# EAGLE library part TS912 (library satnogs)
Dual Operational Amplifiers Source: http://www.st.com/stonline/products/literature/ds/2325/ts912.pdf Over-the-rail, single supply, only in SMD technology
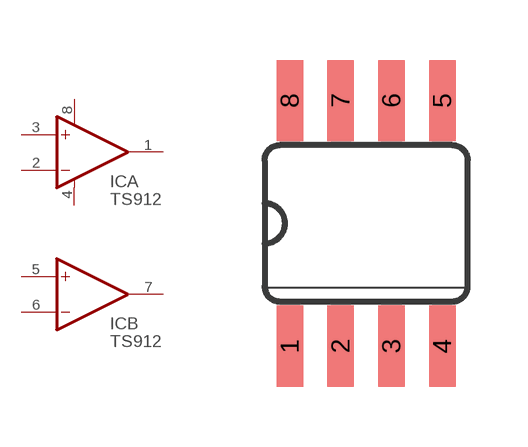
[diagram p3: symbol with the pads of SO08; footprint SO08]

Designator prefix IC; gates A=OPAMP+- B=OPAMP

## TS912D (MPN: TS912IDT; OC_FARNELL: 1642723; OC_NEWARK: unknown; OC_REICHELT: TS 912 D)  [SO08]
1  A:OUT  out
2  A:-IN  in
3  A:+IN  in
4  A:V-  pwr
5  B:+IN  in
6  B:-IN  in
7  B:OUT  out
8  A:V+  pwr

## Footprint SO08 (pad centres in mm)
Small Outline Package SOIC 150 mil
smd 0.66 x 2.032: 1 -1.905,-3.073; 2 -0.635,-3.073; 3 0.635,-3.073; 4 1.905,-3.073; 5 1.905,3.073; 6 0.635,3.073; 7 -0.635,3.073; 8 -1.905,3.073